# EAGLE library part M16C/20(52PIN) (library renesas_mcu)
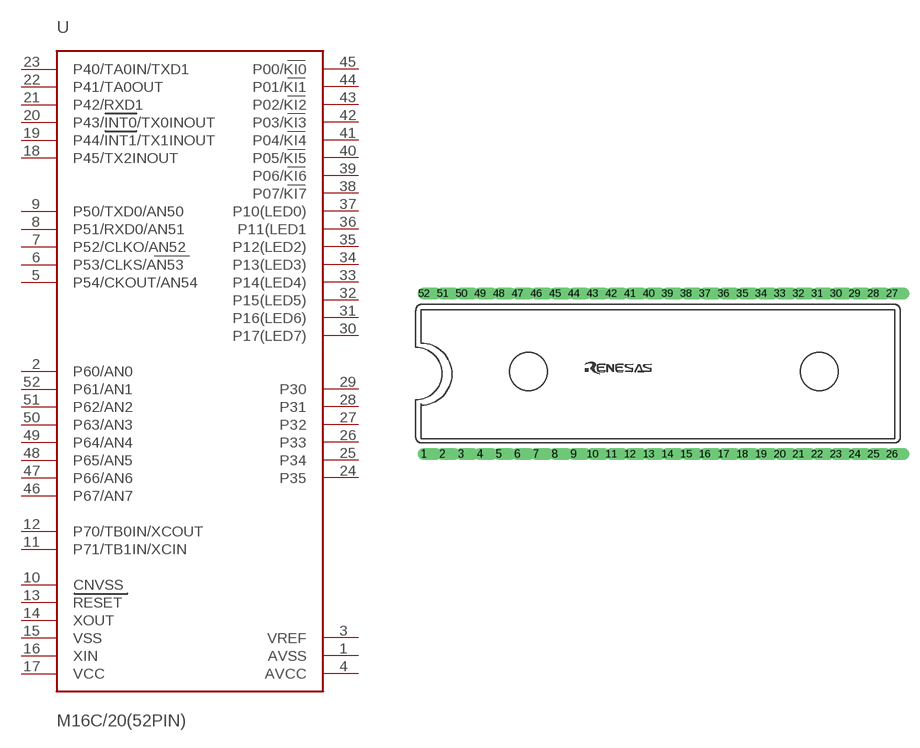
[diagram p35: symbol with the pads of 52P4B; footprint 52P4B]

Designator prefix -

## M16C/20(52PIN)  [52P4B]
1  AVSS  in
2  P60/AN0
3  VREF  in
4  AVCC  in
5  P54/CKOUT/AN54
6  P53/CLKS/AN53
7  P52/CLKO/AN52
8  P51/RXD0/AN51
9  P50/TXD0/AN50
10  CNVSS  in
11  P71/TB1IN/XCIN
12  P70/TB0IN/XCOUT
13  RESET  in
14  XOUT  out
15  VSS  pwr
16  XIN  in
17  VCC  pwr
18  P45/TX2INOUT
19  P44/INT1/TX1INOUT
20  P43/INT0/TX0INOUT
21  P42/RXD1
22  P41/TA0OUT
23  P40/TA0IN/TXD1
24  P35
25  P34
26  P33
27  P32
28  P31
29  P30
30  P17(LED7)
31  P16(LED6)
32  P15(LED5)
33  P14(LED4)
34  P13(LED3)
35  P12(LED2)
36  P11(LED1
37  P10(LED0)
38  P07/KI7
39  P06/KI6
40  P05/KI5
41  P04/KI4
42  P03/KI3
43  P02/KI2
44  P01/KI1
45  P00/KI0
46  P67/AN7
47  P66/AN6
48  P65/AN5
49  P64/AN4
50  P63/AN3  in
51  P62/AN2
52  P61/AN1

## Footprint 52P4B (pad centres in mm)
drill 0.61 offset: 1 -22.225,-7.62; 2 -20.447,-7.62; 3 -18.669,-7.62; 4 -16.891,-7.62; 5 -15.113,-7.62; 6 -13.335,-7.62; 7 -11.557,-7.62; 8 -9.779,-7.62; 9 -8.001,-7.62; 10 -6.223,-7.62; 11 -4.445,-7.62; 12 -2.667,-7.62; 13 -0.889,-7.62; 14 0.889,-7.62; 15 2.667,-7.62; 16 4.445,-7.62; 17 6.223,-7.62; 18 8.001,-7.62; 19 9.779,-7.62; 20 11.557,-7.62; 21 13.335,-7.62; 22 15.113,-7.62; 23 16.891,-7.62; 24 18.669,-7.62; 25 20.447,-7.62; 26 22.225,-7.62; 27 22.225,7.62; 28 20.447,7.62; 29 18.669,7.62; 30 16.891,7.62; 31 15.113,7.62; 32 13.335,7.62; 33 11.557,7.62; 34 9.779,7.62; 35 8.001,7.62; 36 6.223,7.62; 37 4.445,7.62; 38 2.667,7.62; 39 0.889,7.62; 40 -0.889,7.62; 41 -2.667,7.62; 42 -4.445,7.62; 43 -6.223,7.62; 44 -8.001,7.62; 45 -9.779,7.62; 46 -11.557,7.62; 47 -13.335,7.62; 48 -15.113,7.62; 49 -16.891,7.62; 50 -18.669,7.62; 51 -20.447,7.62; 52 -22.225,7.62